# EAGLE library part WRJ10208-0A00 (library WIZnet)
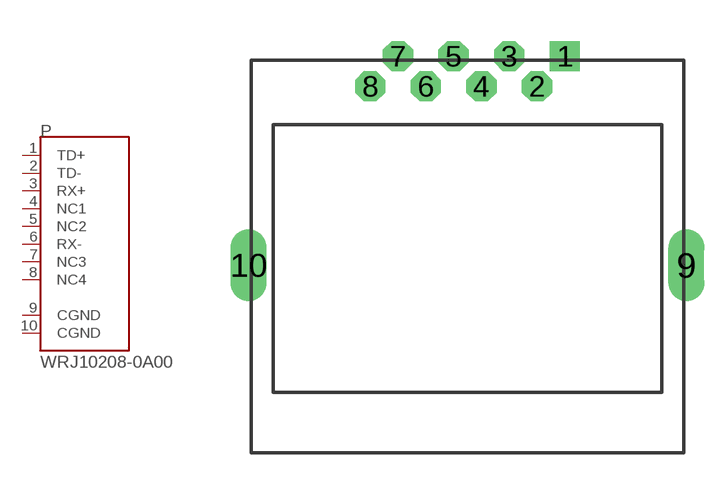
[diagram p6: symbol with the pads of WRJ10208-0A00; footprint WRJ10208-0A00]

Designator prefix P

## WRJ10208-0A00  [WRJ10208-0A00]
1  TD+  pas
2  TD-  pas
3  RX+  pas
4  NC1  pas
5  NC2  pas
6  RX-  pas
7  NC3  pas
8  NC4  pas
9  CGND  pas
10  CGND  pas

## Footprint WRJ10208-0A00 (pad centres in mm)
drill 0.6 pad 1 square: 1 3.556,7.65
drill 0.6 pad 1 octagon: 2 2.54,6.55; 3 1.524,7.65; 4 0.508,6.55; 5 -0.508,7.65; 6 -1.524,6.55; 7 -2.54,7.65; 8 -3.556,6.55
drill 0.8 long: 9 8,0; 10 -8,0